# Altium schematic symbol library 0877131001.SchLib: 1 symbol
Pins are listed as number, name and electrical type; pins without a type are passive.

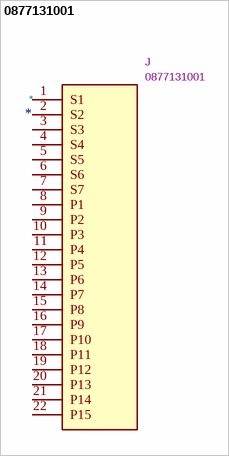
[diagram p0: symbol 0877131001]

## 0877131001
designator *  value 0877131001  Reference: J
Manufacturer_Name: Molex; ki_description: CONN RCPT 22POS STR .05" SMD AU; Footprint: 87713-1001; Datasheet: http://www.molex.com/pdm_docs/sd/877131001_sd.pdf; Manufacturer_Part_Number: 0877131001; Mouser Part Number: N/A; Mouser Price/Stock: https://www.mouser.co.uk/ProductDetail/Molex/0877131001?qs=PBcRNPEHKspplW%252BmhlTGqA%3D%3D; Arrow Part Number: 0877131001; Arrow Price/Stock: https://www.arrow.com/en/products/0877131001/molex?region=nac
pins: 1 S1, 2 S2, 3 S3, 4 S4, 5 S5, 6 S6, 7 S7, 8 P1, 9 P2, 10 P3, 11 P4, 12 P5, 13 P6, 14 P7, 15 P8, 16 P9, 17 P10, 18 P11, 19 P12, 20 P13, 21 P14, 22 P15